# Altium schematic symbol library 74HCT244BQ,115.Schlib: 1 symbol
Pins are listed as number, name and electrical type; pins without a type are passive.

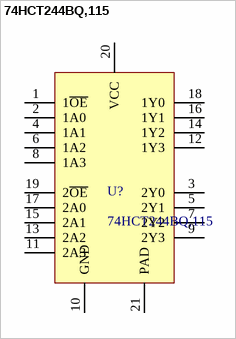
[diagram p0: symbol 74HCT244BQ,115]

## 74HCT244BQ,115
designator U?
Buffer, Non-Inverting 2 Element 4 Bit per Element 3-State Output 20-DHVQFN (4.5x2.5)
pins: 1 1~{OE}, 2 1A0, 3 2Y0, 4 1A1, 5 2Y1, 6 1A2, 7 2Y2, 8 1A3, 9 2Y3, 10 GND, 11 2A3, 12 1Y3, 13 2A2, 14 1Y2, 15 2A1, 16 1Y1, 17 2A0, 18 1Y0, 19 2~{OE}, 20 VCC, 21 PAD